# Altium integrated library SparkFun-RF.IntLib: 45 symbols
Pins are listed as number, name and electrical type; pins without a type are passive.

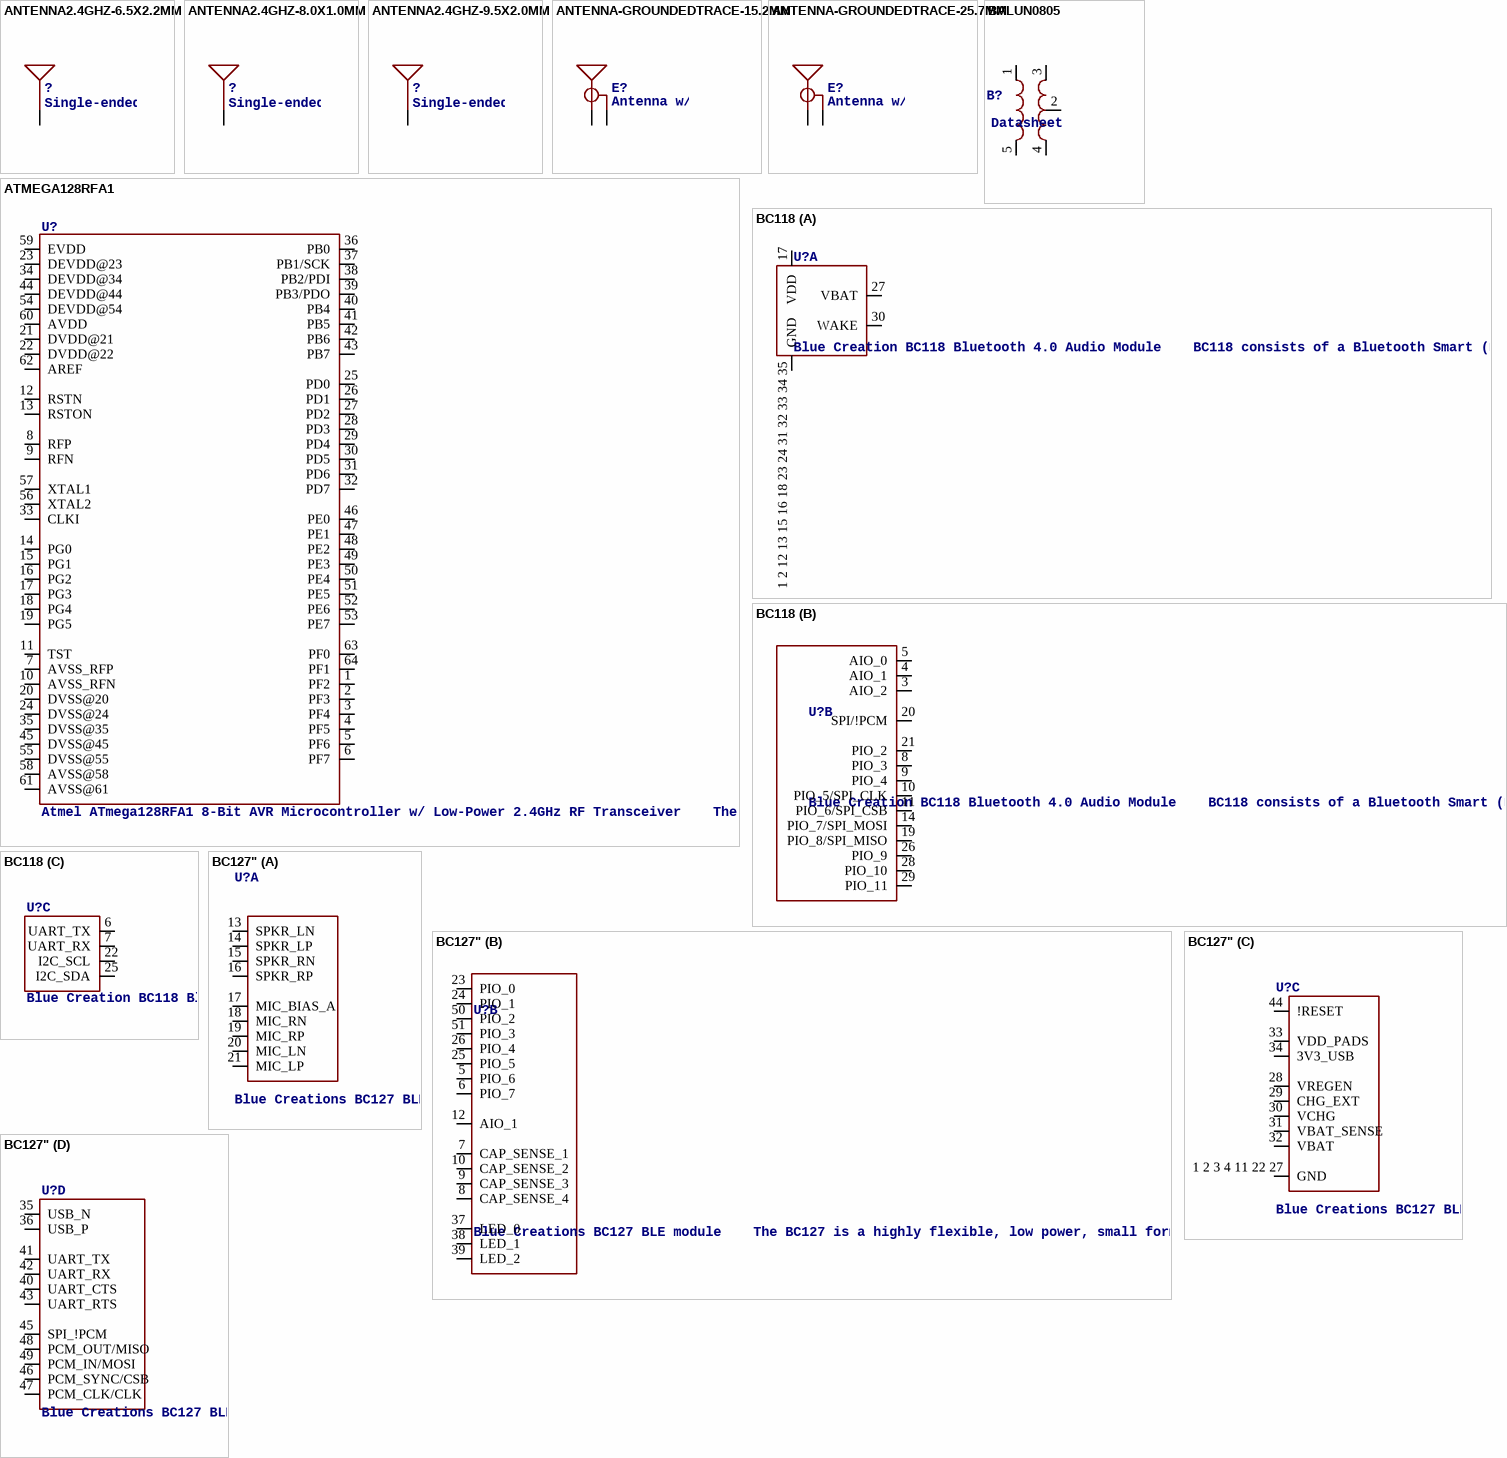
[diagram p0: symbols ANTENNA2.4GHZ-6.5X2.2MM to BC127"]

## ANTENNA2.4GHZ-6.5X2.2MM
designator ?, comment Single-ended Antennae    2.4GHz and antennae with just one terminal. These are all chip antennae.   2.4GHz (WiFi/BT/ZigBee) Antennae ANT-2.4GHZ-6.5X2.2MM - 6.5 x 2.2 mm chip antenna. (SparkFun Product)  ANT-2.4GHZ8.0X1.0MM -  8.0 x 1.0 mm chip antenna. (Datasheet)  ANT-2.4GHZ9.5X2.0MM - 9.5 x 2.0 mm chip antenna. (SparkFun Product)
PROD_ID: ANT-08187; SF_ID: WRL-00144
footprint ANT-2.4GHZ-6.5X2.2MM
pins: FEED SIGNAL

## ANTENNA2.4GHZ-8.0X1.0MM
designator ?, comment Single-ended Antennae    2.4GHz and antennae with just one terminal. These are all chip antennae.   2.4GHz (WiFi/BT/ZigBee) Antennae ANT-2.4GHZ-6.5X2.2MM - 6.5 x 2.2 mm chip antenna. (SparkFun Product)  ANT-2.4GHZ8.0X1.0MM -  8.0 x 1.0 mm chip antenna. (Datasheet)  ANT-2.4GHZ9.5X2.0MM - 9.5 x 2.0 mm chip antenna. (SparkFun Product)
PROD_ID: ANT-11807
footprint ANT-2.4GHZ-8.0X1.0MM
pins: FEED SIGNAL

## ANTENNA2.4GHZ-9.5X2.0MM
designator ?, comment Single-ended Antennae    2.4GHz and antennae with just one terminal. These are all chip antennae.   2.4GHz (WiFi/BT/ZigBee) Antennae ANT-2.4GHZ-6.5X2.2MM - 6.5 x 2.2 mm chip antenna. (SparkFun Product)  ANT-2.4GHZ8.0X1.0MM -  8.0 x 1.0 mm chip antenna. (Datasheet)  ANT-2.4GHZ9.5X2.0MM - 9.5 x 2.0 mm chip antenna. (SparkFun Product)
PROD_ID: ANT-09067; SF_ID: WRL-09025
footprint ANT-2.4GHZ-9.5X2.0MM
pins: FEED SIGNAL

## ANTENNA-GROUNDEDTRACE-15.2MM
designator E?, comment Antenna w/ Ground Connection    2.4GHz antennae with signal and ground terminals.    TRACE_ANTENNA_2.4GHZ_15.2MM - Meander Trace antenna  15.2 x 5.7mm footprint  Based on layout from TI app note AN043.      TRACE_ANTENNA_2.4GHZ_25.7MM - Inverted F trace antenna  25.7 x 7.5 mm footprint.  Based on layout from TI design note DN0007.
footprint TRACE_ANTENNA_2.4GHZ_15.2MM
pins: ANT SIGNAL, GND

## ANTENNA-GROUNDEDTRACE-25.7MM
designator E?, comment Antenna w/ Ground Connection    2.4GHz antennae with signal and ground terminals.    TRACE_ANTENNA_2.4GHZ_15.2MM - Meander Trace antenna  15.2 x 5.7mm footprint  Based on layout from TI app note AN043.      TRACE_ANTENNA_2.4GHZ_25.7MM - Inverted F trace antenna  25.7 x 7.5 mm footprint.  Based on layout from TI design note DN0007.
footprint TRACE_ANTENNA_2.4GHZ_25.7MM
pins: ANT SIGNAL, GND GND2 GND

## ATMEGA128RFA1
designator U?, comment Atmel ATmega128RFA1 8-Bit AVR Microcontroller w/ Low-Power 2.4GHz RF Transceiver    The  ATmega128RFA1  is  a  low-power  CMOS  8-bit  microcontroller  based  on  the  AVR enhanced RISC architecture combined with a high data rate transceiver for the 2.4 GHz ISM band. By   executing   powerful   instructions   in   a   single   clock   cycle,   the   device   achieves  throughputs  approaching  1  MIPS  per  MHz  allowing  the  system  designer  to  optimize power consumption versus processing speed. The  radio  transceiver  provides  high  data  rates  from  250 kb/s  up  to  2 Mb/s,  frame handling,  outstanding receiver  sensitivity  and  high transmit  output  power  enabling  a very robust wireless communication.    Datasheet   SparkFun ATmega128RFA1 Development Board
PROD_ID: IC-09639
footprint QFN-64-9X9MM
pins: 1 PF2, 2 PF3, 3 PF4, 4 PF5, 5 PF6, 6 PF7, 7 AVSS_RFP, 8 RFP, 9 RFN, 10 AVSS_RFN, 11 TST, 12 RSTN, 13 RSTON, 14 PG0, 15 PG1, 16 PG2, 17 PG3, 18 PG4, 19 PG5, 20 DVSS@20, 21 DVDD@21, 22 DVDD@22, 23 DEVDD@23, 24 DVSS@24, 25 PD0, 26 PD1, 27 PD2, 28 PD3, 29 PD4, 30 PD5, 31 PD6, 32 PD7, 33 CLKI, 34 DEVDD@34, 35 DVSS@35, 36 PB0, 37 PB1/SCK, 38 PB2/PDI, 39 PB3/PDO, 40 PB4, 41 PB5, 42 PB6, 43 PB7, 44 DEVDD@44, 45 DVSS@45, 46 PE0, 47 PE1, 48 PE2, 49 PE3, 50 PE4, 51 PE5, 52 PE6, 53 PE7, 54 DEVDD@54, 55 DVSS@55, 56 XTAL2, 57 XTAL1, 58 AVSS@58, 59 EVDD, 60 AVDD, 61 AVSS@61, 62 AREF, 63 PF0, 64 PF1

## BALUN0805
designator B?, comment Balun    Transformer to convert an unbalanced signal to a balenced one, or vice-versa.   Example Datasheet
PROD_ID: COMP-09637
footprint BALUN-0805
pins: 1 IN, 2 GND@2, 3 OUT1, 4 OUT2, 5 GND@5

## BC118
designator U?, comment Blue Creation BC118 Bluetooth 4.0 Audio Module    BC118 consists of a Bluetooth Smart (Bluetooth 4.0) radio, a microprocessor running an embedded protocol stack. The module is controlled by high level UART instructions or GPIOs. B118 supports UART and I2C Transparent mode for cable replacement, standard/custom profiles, central and peripheral modes. It can connect to any Android, iOS or Windows Mobile Smartphone that is Bluetooth smart capable. The firmware can be upgraded using an App provided by BlueCreation. BC118 can run standalone, with a host processor or controlled by an App.   Datasheet   SparkFun Products:  BLE Mate 2 (WRL-13019)
PROD_ID: WRL-12203
footprint BC118
part A pins: 1 2 12 13 15 16 18 23 24 31 32 33 34 35 GND, 17 VDD, 27 VBAT, 30 WAKE
part B pins: 3 AIO_2, 4 AIO_1, 5 AIO_0, 8 PIO_3, 9 PIO_4, 10 PIO_5/SPI_CLK, 11 PIO_6/SPI_CSB, 14 PIO_7/SPI_MOSI, 19 PIO_8/SPI_MISO, 20 SPI/!PCM, 21 PIO_2, 26 PIO_9, 28 PIO_10, 29 PIO_11
part C pins: 6 UART_TX, 7 UART_RX, 22 I2C_SCL, 25 I2C_SDA

## BC127"
designator U?, comment Blue Creations BC127 BLE module    The BC127 is a highly flexible, low power, small form factor Bluetooth Version 4.0 Certified Audio module. It comes preloaded with BlueCreation Melody software, and is ideal for developers who want to quickly and cost effectively integrate Bluetooth functionality into their products.   SparkFun Products:  Bluetooth SMD Module - BC127 (WRL-12819)  Bluetooth Audio Breakout - BC127 (WRL-11927)  Purpletooth Jamboree - BC127 Development Board (WRL-11924)
PROD_ID: IC-11659
footprint BC127
part A pins: 13 SPKR_LN, 14 SPKR_LP, 15 SPKR_RN, 16 SPKR_RP, 17 MIC_BIAS_A, 18 MIC_RN, 19 MIC_RP, 20 MIC_LN, 21 MIC_LP
part B pins: 5 PIO_6, 6 PIO_7, 7 CAP_SENSE_1, 8 CAP_SENSE_4, 9 CAP_SENSE_3, 10 CAP_SENSE_2, 12 AIO_1, 23 PIO_0, 24 PIO_1, 25 PIO_5, 26 PIO_4, 37 LED_0, 38 LED_1, 39 LED_2, 50 PIO_2, 51 PIO_3
part C pins: 1 2 3 4 11 22 27 GND, 28 VREGEN, 29 CHG_EXT, 30 VCHG, 31 VBAT_SENSE, 32 VBAT, 33 VDD_PADS, 34 3V3_USB, 44 !RESET
part D pins: 35 USB_N, 36 USB_P, 40 UART_CTS, 41 UART_TX, 42 UART_RX, 43 UART_RTS, 45 SPI_!PCM, 46 PCM_SYNC/CSB, 47 PCM_CLK/CLK, 48 PCM_OUT/MISO, 49 PCM_IN/MOSI

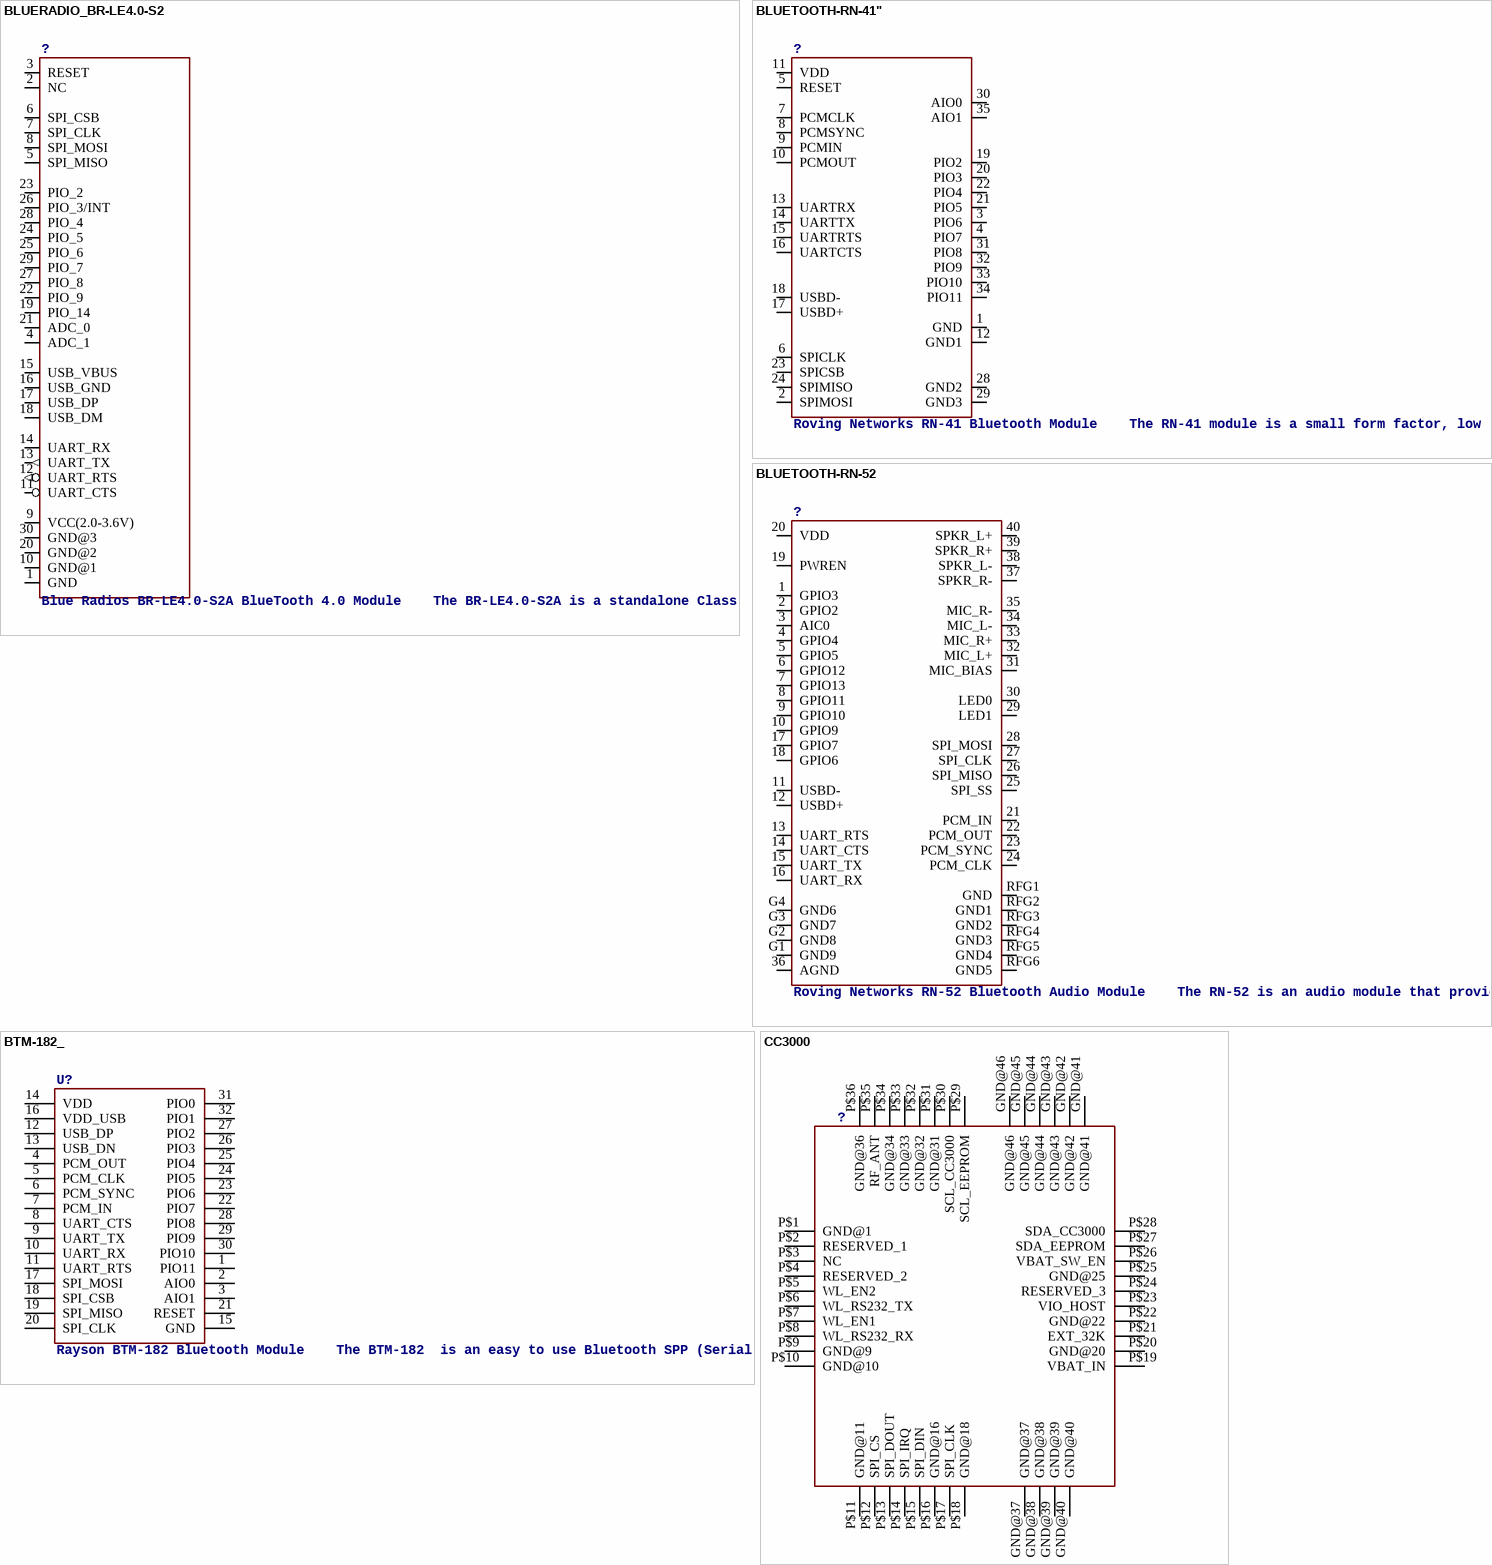
[diagram p1: symbols BLUERADIO_BR-LE4.0-S2 to CC3000]

## BLUERADIO_BR-LE4.0-S2
designator ?, comment Blue Radios BR-LE4.0-S2A BlueTooth 4.0 Module    The BR-LE4.0-S2A is a standalone Class 1 Bluetooth 4.0 module that requires no firmware or external components. Custom client applications can be written directly onto the module, which supports both analog and digital peripherals, eliminating the need for a second microprocessor. Alternately, the BR-LE4.0-S2A can be integrated into an existing design as a HCI network processor device, with a host processor running the core application and the BR-LE4.0-S2A providing Bluetooth low energy communications.   SparkFun Products:  Bluetooth 4.0 Module - BR-LE 4.0-S2A (WRL-12991)
PROD_ID: IC-11328
footprint BLUERADIO_BR-LE4.0-S2
pins: 1 GND (power), 2 NC, 3 RESET, 4 ADC_1, 5 SPI_MISO, 6 SPI_CSB, 7 SPI_CLK, 8 SPI_MOSI, 9 VCC(2.0-3.6V) (power), 10 GND@1 (power), 11 UART_CTS, 12 UART_RTS (out), 13 UART_TX (out), 14 UART_RX, 15 USB_VBUS, 16 USB_GND, 17 USB_DP, 18 USB_DM, 19 PIO_14, 20 GND@2 (power), 21 ADC_0, 22 PIO_9, 23 PIO_2, 24 PIO_5, 25 PIO_6, 26 PIO_3/INT, 27 PIO_8, 28 PIO_4, 29 PIO_7, 30 GND@3 (power)

## BLUETOOTH-RN-41"
designator ?, comment Roving Networks RN-41 Bluetooth Module    The RN-41 module is a small form factor, low power, class 1 Bluetooth radio that is ideal for designers who want to add wireless capability to their products without spending significant time and money developing Bluetooth-specific hardware and software. The RN-41 supports multiple interface protocols, is simple to design in, and is fully certified, making it a complete embedded Bluetooth solution.   SparkFun Products:  Bluetooth SMD Module - RN-41 (WRL-12575)  Bluetooth Module Breakout - Roving Networks (RN-41 v6.15) (WRL-12579)
PROD_ID: IC-11844; SF_ID: WRL-12575
footprint RN41
pins: 1 GND, 2 SPIMOSI, 3 PIO6, 4 PIO7, 5 RESET, 6 SPICLK, 7 PCMCLK, 8 PCMSYNC, 9 PCMIN, 10 PCMOUT, 11 VDD, 12 GND1, 13 UARTRX, 14 UARTTX, 15 UARTRTS, 16 UARTCTS, 17 USBD+, 18 USBD-, 19 PIO2, 20 PIO3, 21 PIO5, 22 PIO4, 23 SPICSB, 24 SPIMISO, 28 GND2, 29 GND3, 30 AIO0, 31 PIO8, 32 PIO9, 33 PIO10, 34 PIO11, 35 AIO1

## BLUETOOTH-RN-52
designator ?, comment Roving Networks RN-52 Bluetooth Audio Module    The RN-52 is an audio module that provides a highly integrated solution for delivering high quality stereo audio in a small form factor with little difficulty. This module is perfect for a project involving hands free audio for your car, remote controlling your media center, or streaming 2-channel audio.   SparkFun Products:  RN-52 - Bluetooth Audio Module (WRL-11678)  Audio Bluetooth Breakout - RN-52 (WRL-12849)
PROD_ID: IC-11569; SF_ID: WRL-11678
footprint RN-52
pins: 1 GPIO3, 2 GPIO2, 3 AIC0, 4 GPIO4, 5 GPIO5, 6 GPIO12, 7 GPIO13, 8 GPIO11, 9 GPIO10, 10 GPIO9, 11 USBD-, 12 USBD+, 13 UART_RTS, 14 UART_CTS, 15 UART_TX, 16 UART_RX, 17 GPIO7, 18 GPIO6, 19 PWREN, 20 VDD, 21 PCM_IN, 22 PCM_OUT, 23 PCM_SYNC, 24 PCM_CLK, 25 SPI_SS, 26 SPI_MISO, 27 SPI_CLK, 28 SPI_MOSI, 29 LED1, 30 LED0, 31 MIC_BIAS, 32 MIC_L+, 33 MIC_R+, 34 MIC_L-, 35 MIC_R-, 36 AGND, 37 SPKR_R-, 38 SPKR_L-, 39 SPKR_R+, 40 SPKR_L+, G1 GND9, G2 GND8, G3 GND7, G4 GND6, RFG1 GND, RFG2 GND1, RFG3 GND2, RFG4 GND3, RFG5 GND4, RFG6 GND5

## BTM-182_
designator U?, comment Rayson BTM-182 Bluetooth Module    The BTM-182  is an easy to use Bluetooth SPP (Serial Port Protocol) module, designed for transparent wireless serial connection setup. This is a fully qualified Bluetooth V2.0+EDR (Enhanced Data Rate) 3Mbps modulation with complete 2.4GHz radio transceiver. It uses CSR Bluecore 04 external single chip Bluetooth system with CMOS technology and with AFH (Adaptive Frequency Hopping).   SparkFun Products:  Bluetooth DIP Module - Rayson BTM-182 (WRL-9977)
PROD_ID: IC-09842; SF_ID: WRL-09913
footprint BTM182
pins: 1 PIO11, 2 AIO0, 3 AIO1, 4 PCM_OUT, 5 PCM_CLK, 6 PCM_SYNC, 7 PCM_IN, 8 UART_CTS, 9 UART_TX, 10 UART_RX, 11 UART_RTS, 12 USB_DP, 13 USB_DN, 14 VDD, 15 GND, 16 VDD_USB, 17 SPI_MOSI, 18 SPI_CSB, 19 SPI_MISO, 20 SPI_CLK, 21 RESET, 22 PIO7, 23 PIO6, 24 PIO5, 25 PIO4, 26 PIO3, 27 PIO2, 28 PIO8, 29 PIO9, 30 PIO10, 31 PIO0, 32 PIO1

## CC3000
designator ?, comment Texas Instruments CC3000 WiFi Module    The CC3000 from TI (Texas Instruments) is a self-contained wireless network processor that makes incorporating internet connectivity into your project simple. Instead of the more standard UART communication method, the CC3000 module utilizes an SPI interface allowing you, the user, to control the flow of data as you please.   SparkFun Products WiFi SMD Module - CC3000 (WRL-12820)  SparkFun WiFi Breakout - CC3000 (WRL-12072)  SparkFun WiFi Shield - CC3000 (WRL-12071)
PROD_ID: IC-12643; SF_ID: WRL-13444
footprint QFN-46-13.5X16.3MM
pins: GND@37, GND@38, GND@39, GND@40, GND@41, GND@42, GND@43, GND@44, GND@45, GND@46, P$1 GND@1, P$2 RESERVED_1, P$3 NC, P$4 RESERVED_2, P$5 WL_EN2, P$6 WL_RS232_TX, P$7 WL_EN1, P$8 WL_RS232_RX, P$9 GND@9, P$10 GND@10, P$11 GND@11, P$12 SPI_CS, P$13 SPI_DOUT, P$14 SPI_IRQ, P$15 SPI_DIN, P$16 GND@16, P$17 SPI_CLK, P$18 GND@18, P$19 VBAT_IN, P$20 GND@20, P$21 EXT_32K, P$22 GND@22, P$23 VIO_HOST, P$24 RESERVED_3, P$25 GND@25, P$26 VBAT_SW_EN, P$27 SDA_EEPROM, P$28 SDA_CC3000, P$29 SCL_EEPROM, P$30 SCL_CC3000, P$31 GND@31, P$32 GND@32, P$33 GND@33, P$34 GND@34, P$35 RF_ANT, P$36 GND@36

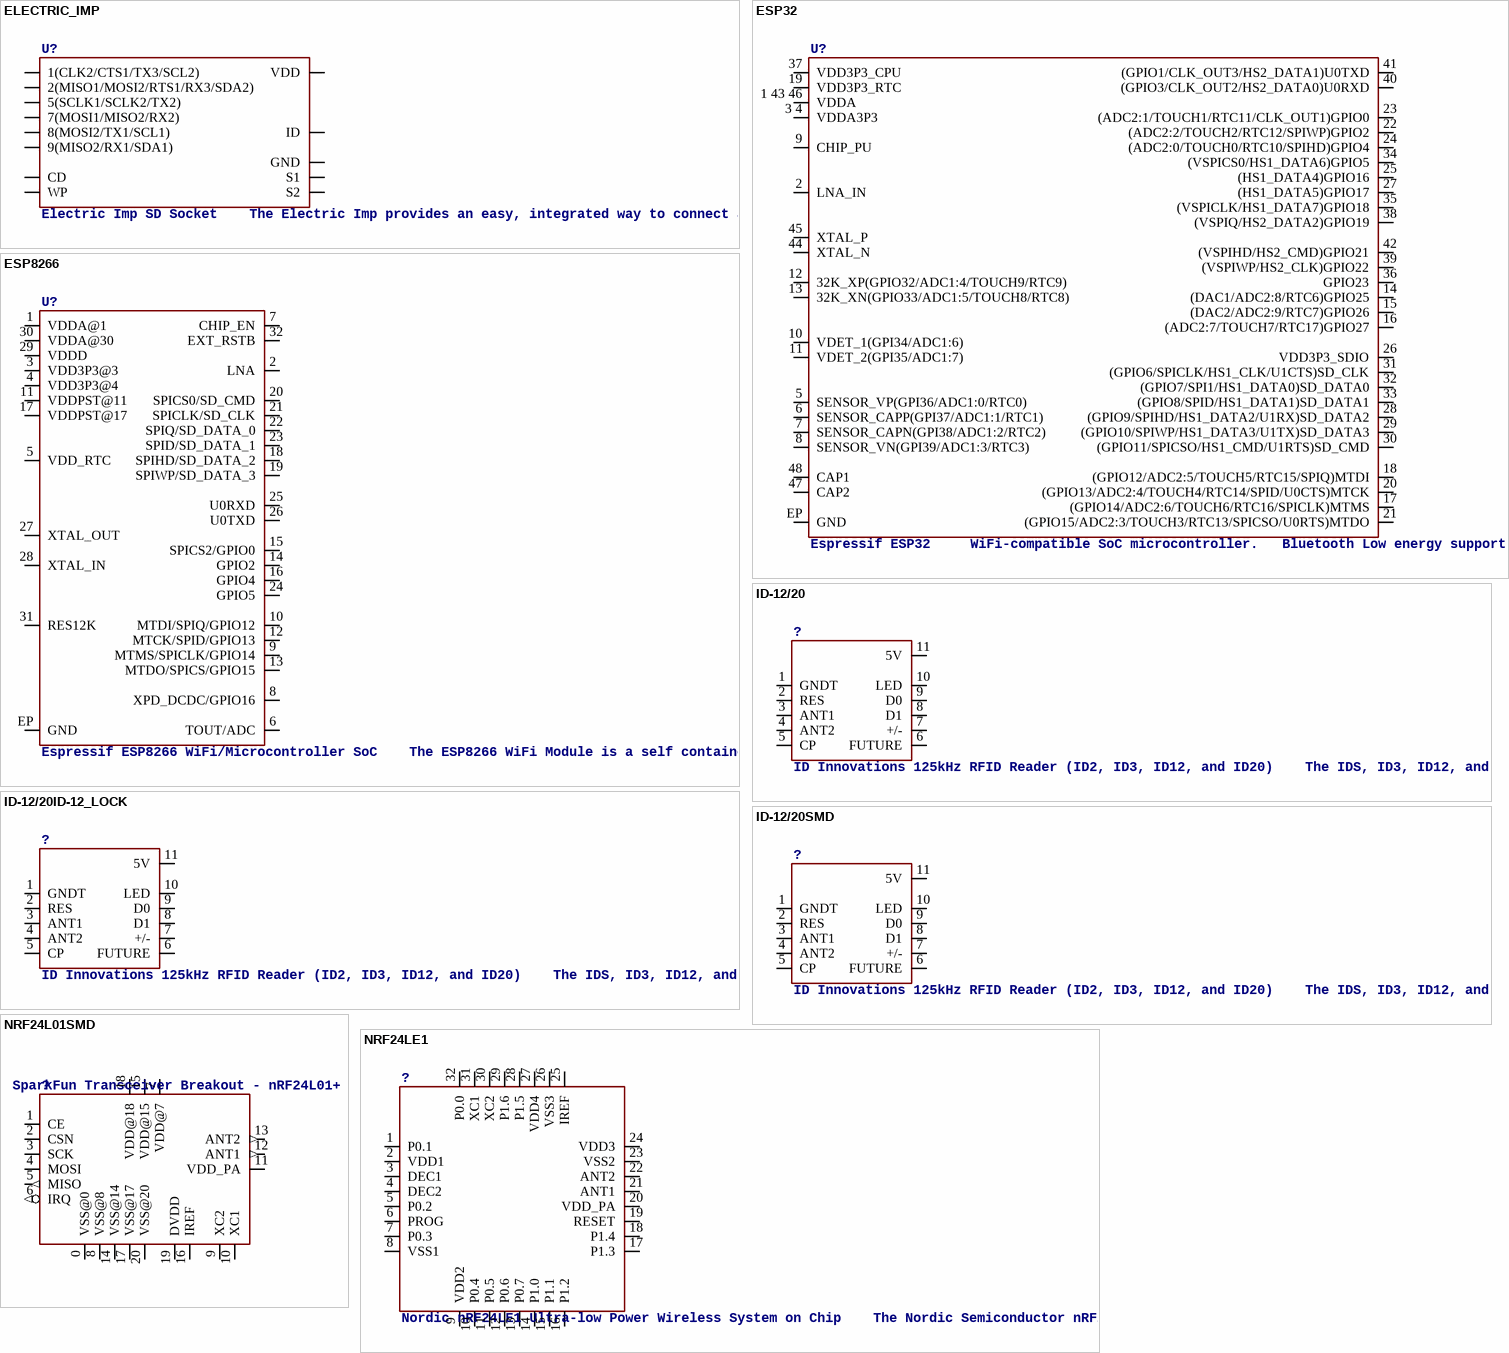
[diagram p2: symbols ELECTRIC_IMP to NRF24LE1]

## ELECTRIC_IMP
designator U?, comment Electric Imp SD Socket    The Electric Imp provides an easy, integrated way to connect almost any hardware device both to other devices and to internet services. It’s more than just a WiFi card, or even a WiFi module with processing built in - it’s an integrated platform that deals with the drudgery of connectivity, allowing you to concentrate on the application instead of the mechanics.    This device matches the Electric Imp pinout to a 4UCONN SD MMC connector. The 4UCONN part number for the connector is 19646.   SparkFun Products:  Electric Imp Breakout (WRL-12886)  SparkFun Electric Imp Shield (WRL-12887)
PROD_ID: CONN-11976
footprint SD-CARD
pins: 1 1(CLK2/CTS1/TX3/SCL2), 2 2(MISO1/MOSI2/RTS1/RX3/SDA2), 3 GND, 4 VDD, 5 5(SCLK1/SCLK2/TX2), 6 ID, 7 7(MOSI1/MISO2/RX2), 8 8(MOSI2/TX1/SCL1), 9 9(MISO2/RX1/SDA1), CD, SH@1 S1, SH@2 S2, WP

## ESP32
designator U?, comment Espressif ESP32     WiFi-compatible SoC microcontroller.   Bluetooth Low energy support (BLE, BT4.0, Bluetooth Smart)  28 GPIO pins  Dual-core Tensilica LX6 microprocessor  Hardware accelerated encryption (AES, SHA2, ECC, RSA-4096)  4MB Flash memory  520kB internal SRAM  Datasheet    SparkFun Products: SparkFun ESP32 Thing
PROD_ID: IC-13338
footprint QFN48-0.4MM
pins: 1 43 46 VDDA, 2 LNA_IN, 3 4 VDDA3P3, 5 SENSOR_VP(GPI36/ADC1:0/RTC0), 6 SENSOR_CAPP(GPI37/ADC1:1/RTC1), 7 SENSOR_CAPN(GPI38/ADC1:2/RTC2), 8 SENSOR_VN(GPI39/ADC1:3/RTC3), 9 CHIP_PU, 10 VDET_1(GPI34/ADC1:6), 11 VDET_2(GPI35/ADC1:7), 12 32K_XP(GPIO32/ADC1:4/TOUCH9/RTC9), 13 32K_XN(GPIO33/ADC1:5/TOUCH8/RTC8), 14 (DAC1/ADC2:8/RTC6)GPIO25, 15 (DAC2/ADC2:9/RTC7)GPIO26, 16 (ADC2:7/TOUCH7/RTC17)GPIO27, 17 (GPIO14/ADC2:6/TOUCH6/RTC16/SPICLK)MTMS, 18 (GPIO12/ADC2:5/TOUCH5/RTC15/SPIQ)MTDI, 19 VDD3P3_RTC, 20 (GPIO13/ADC2:4/TOUCH4/RTC14/SPID/U0CTS)MTCK, 21 (GPIO15/ADC2:3/TOUCH3/RTC13/SPICSO/U0RTS)MTDO, 22 (ADC2:2/TOUCH2/RTC12/SPIWP)GPIO2, 23 (ADC2:1/TOUCH1/RTC11/CLK_OUT1)GPIO0, 24 (ADC2:0/TOUCH0/RTC10/SPIHD)GPIO4, 25 (HS1_DATA4)GPIO16, 26 VDD3P3_SDIO, 27 (HS1_DATA5)GPIO17, 28 (GPIO9/SPIHD/HS1_DATA2/U1RX)SD_DATA2, 29 (GPIO10/SPIWP/HS1_DATA3/U1TX)SD_DATA3, 30 (GPIO11/SPICSO/HS1_CMD/U1RTS)SD_CMD, 31 (GPIO6/SPICLK/HS1_CLK/U1CTS)SD_CLK, 32 (GPIO7/SPI1/HS1_DATA0)SD_DATA0, 33 (GPIO8/SPID/HS1_DATA1)SD_DATA1, 34 (VSPICS0/HS1_DATA6)GPIO5, 35 (VSPICLK/HS1_DATA7)GPIO18, 36 GPIO23, 37 VDD3P3_CPU, 38 (VSPIQ/HS2_DATA2)GPIO19, 39 (VSPIWP/HS2_CLK)GPIO22, 40 (GPIO3/CLK_OUT2/HS2_DATA0)U0RXD, 41 (GPIO1/CLK_OUT3/HS2_DATA1)U0TXD, 42 (VSPIHD/HS2_CMD)GPIO21, 44 XTAL_N, 45 XTAL_P, 47 CAP2, 48 CAP1, EP GND

## ESP8266
designator U?, comment Espressif ESP8266 WiFi/Microcontroller SoC    The ESP8266 WiFi Module is a self contained SOC with integrated TCP/IP protocol stack that can give any microcontroller access to your WiFi network. The ESP8266 is capable of either hosting an application or offloading all Wi-Fi networking functions from another application processor.   SparkFun Products WiFi Module ESP8266 (WRL-13678)  SparkFun ESP8266 Thing (WRL-13231)  SparkFun WiFi Shield - ESP8266 (WRL-13287)  SparkFun ESP8266 Thing - Dev Board (WRL-13711)  SparkFun Blynk Board - ESP8266 (WRL-13794)
PROD_ID: IC-12452
footprint QFN32-5X5MM
pins: 1 VDDA@1, 2 LNA, 3 VDD3P3@3, 4 VDD3P3@4, 5 VDD_RTC, 6 TOUT/ADC, 7 CHIP_EN, 8 XPD_DCDC/GPIO16, 9 MTMS/SPICLK/GPIO14, 10 MTDI/SPIQ/GPIO12, 11 VDDPST@11, 12 MTCK/SPID/GPIO13, 13 MTDO/SPICS/GPIO15, 14 GPIO2, 15 SPICS2/GPIO0, 16 GPIO4, 17 VDDPST@17, 18 SPIHD/SD_DATA_2, 19 SPIWP/SD_DATA_3, 20 SPICS0/SD_CMD, 21 SPICLK/SD_CLK, 22 SPIQ/SD_DATA_0, 23 SPID/SD_DATA_1, 24 GPIO5, 25 U0RXD, 26 U0TXD, 27 XTAL_OUT, 28 XTAL_IN, 29 VDDD, 30 VDDA@30, 31 RES12K, 32 EXT_RSTB, EP GND

## ID-12/20
designator ?, comment ID Innovations 125kHz RFID Reader (ID2, ID3, ID12, and ID20)    The IDS, ID3, ID12, and ID20 are very simple to use RFID reader modules. Power the module, hold up a 125kHz card, and get a serial string output containing the unique ID of the card.   SparkFun Products RFID Reader ID-3LA (125 kHz) (SEN-11862)  RFID Reader ID-12LA (125 kHz) (SEN-11827)  RFID Reader ID-20LA (125 kHz) (SEN-11828)  SparkFun RFID USB Reader (SEN-9963)
PROD_ID: CONN-08875
footprint ID-12
pins: 1 GNDT, 2 RES, 3 ANT1, 4 ANT2, 5 CP, 6 FUTURE, 7 +/-, 8 D1, 9 D0, 10 LED, 11 5V

## ID-12/20ID-12_LOCK
designator ?, comment ID Innovations 125kHz RFID Reader (ID2, ID3, ID12, and ID20)    The IDS, ID3, ID12, and ID20 are very simple to use RFID reader modules. Power the module, hold up a 125kHz card, and get a serial string output containing the unique ID of the card.   SparkFun Products RFID Reader ID-3LA (125 kHz) (SEN-11862)  RFID Reader ID-12LA (125 kHz) (SEN-11827)  RFID Reader ID-20LA (125 kHz) (SEN-11828)  SparkFun RFID USB Reader (SEN-9963)
PROD_ID: CONN-08875
footprint ID-12_LOCK
pins: 1 GNDT, 2 RES, 3 ANT1, 4 ANT2, 5 CP, 6 FUTURE, 7 +/-, 8 D1, 9 D0, 10 LED, 11 5V

## ID-12/20SMD
designator ?, comment ID Innovations 125kHz RFID Reader (ID2, ID3, ID12, and ID20)    The IDS, ID3, ID12, and ID20 are very simple to use RFID reader modules. Power the module, hold up a 125kHz card, and get a serial string output containing the unique ID of the card.   SparkFun Products RFID Reader ID-3LA (125 kHz) (SEN-11862)  RFID Reader ID-12LA (125 kHz) (SEN-11827)  RFID Reader ID-20LA (125 kHz) (SEN-11828)  SparkFun RFID USB Reader (SEN-9963)
PROD_ID: CONN-09345, CONN-09344
footprint ID-12_SMD
pins: 1 GNDT, 2 RES, 3 ANT1, 4 ANT2, 5 CP, 6 FUTURE, 7 +/-, 8 D1, 9 D0, 10 LED, 11 5V

## NRF24L01SMD
designator ?, comment Nordic nrf24L01 2.4GHz Low-power Transceiver    This is the very popular, low cost, very low power RF transceiver from Nordic Semiconductor. Simple SPI interface.   SparkFun Products 2.4GHz Transceiver IC - nRF24L01+ (COM-00690)  SparkFun Transceiver Breakout - nRF24L01+ (RP-SMA) (WRL-00705)  SparkFun Transceiver Breakout - nRF24L01+ (COM-00691)
PROD_ID: IC-08950; SF_ID: COM-00690
footprint QFN20-4X4MM
pins: 0 VSS@0 (power), 1 CE, 2 CSN, 3 SCK, 4 MOSI, 5 MISO (out), 6 IRQ (out), 7 VDD@7 (power), 8 VSS@8 (power), 9 XC2, 10 XC1, 11 VDD_PA (power), 12 ANT1 (out), 13 ANT2 (out), 14 VSS@14 (power), 15 VDD@15 (power), 16 IREF, 17 VSS@17 (power), 18 VDD@18 (power), 19 DVDD (power), 20 VSS@20 (power)

## NRF24LE1
designator ?, comment Nordic nRF24LE1 Ultra-low Power Wireless System on Chip    The Nordic Semiconductor nRF24LE1 is a 2.4GHz ISM band radio with emhanced 8051 MCU, up to 2Mbps on air data rate, 1.9 to 3.6V supply range, 16-32-bit multiplication-division co-processor (MDU), 16 kBytes of on-chip Flash, 1 kBytes on SRAM, 1 kBytes NV data memory, 512 Bytes NV data memory (extended endurance), Interrupt controller with 18 sources and 4 priority levels, 1 Analog comparator, 10 Bit ADC, Hardware SPI slave and master, UART, three 16-bit timers/counters, AES encryption/decryption co-processor, Random number generator, 2-Wire interface, 2 Channel PWM, 7, 15, or 31 GPIO lines, On-chip hardware debug support for a JTAG debugger.
PROD_ID: IC-09044
footprint QFN-32-5X5MM
pins: 1 P0.1, 2 VDD1, 3 DEC1, 4 DEC2, 5 P0.2, 6 PROG, 7 P0.3, 8 VSS1, 9 VDD2, 10 P0.4, 11 P0.5, 12 P0.6, 13 P0.7, 14 P1.0, 15 P1.1, 16 P1.2, 17 P1.3, 18 P1.4, 19 RESET, 20 VDD_PA, 21 ANT1, 22 ANT2, 23 VSS2, 24 VDD3, 25 IREF, 26 VSS3, 27 VDD4, 28 P1.5, 29 P1.6, 30 XC2, 31 XC1, 32 P0.0

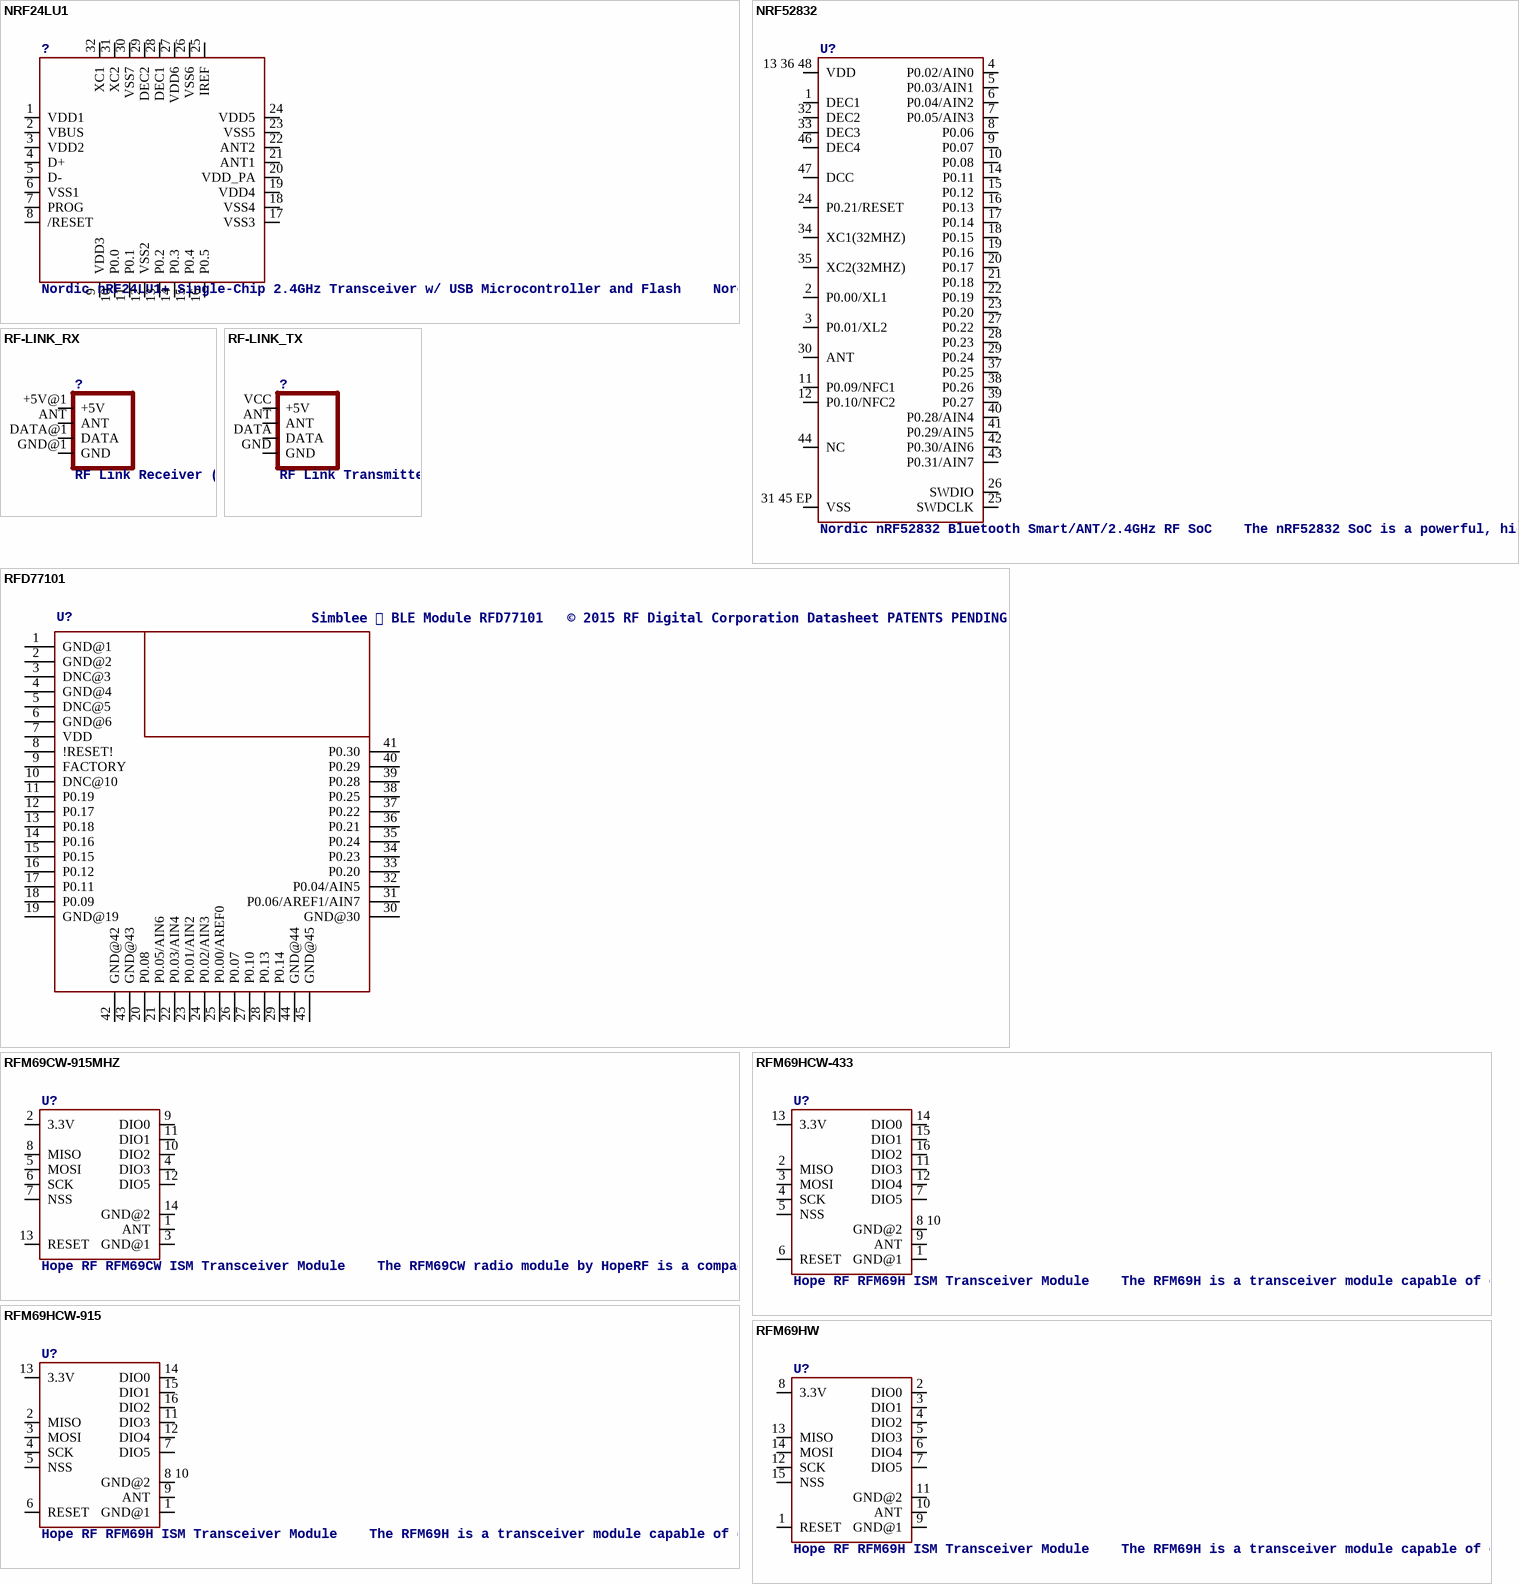
[diagram p3: symbols NRF24LU1 to RFM69HW]

## NRF24LU1
designator ?, comment Nordic nRF24LU1+ Single-Chip 2.4GHz Transceiver w/ USB Microcontroller and Flash    Nordic’s nRF24LU1+ is a complete system-on-chip wireless transceiver. The nRF24LU1+ features a fully integrated USB 2.0 compliant device controller, which makes this chip a great choice for a compact wireless USB dongle. The nRF24LU1+ is compatible with our nRF24L01+ 2.4GHz RF transceivers as well. Additional features include an 8-bit application microcontroller, 32 kB flash memory, 6 GPIO pins, SPI and UART support, and up to 2Mbps on air data rates.   SparkFun Products 2.4GHz Transceiver IC - nRF24LU1+ (COM-09525)
PROD_ID: IC-09045
footprint QFN-32-5X5MM
pins: 1 VDD1, 2 VBUS, 3 VDD2, 4 D+, 5 D-, 6 VSS1, 7 PROG, 8 /RESET, 9 VDD3, 10 P0.0, 11 P0.1, 12 VSS2, 13 P0.2, 14 P0.3, 15 P0.4, 16 P0.5, 17 VSS3, 18 VSS4, 19 VDD4, 20 VDD_PA, 21 ANT1, 22 ANT2, 23 VSS5, 24 VDD5, 25 IREF, 26 VSS6, 27 VDD6, 28 DEC1, 29 DEC2, 30 VSS7, 31 XC2, 32 XC1

## NRF52832
designator U?, comment Nordic nRF52832 Bluetooth Smart/ANT/2.4GHz RF SoC    The nRF52832 SoC is a powerful, highly flexible ultra-low power multiprotocol SoC ideally suited for Bluetooth® Smart ANT and 2.4GHz ultra low-power wireless applications.  The nRF52832 SoC is built around a 32-bit ARM® Cortex™-M4F CPU with 512kB + 64kB RAM. The embedded 2.4GHz transceiver supports Bluetooth Smart, ANT and proprietary 2.4 GHz protocol stack.  It is on air compatible with the nRF51 Series, nRF24L and nRF24AP Series products from Nordic Semiconductor.   Datasheet   SparkFun Products: SparkFun nRF52832 Breakout
PROD_ID: IC-13460
footprint QFN48-6X6MM
pins: 1 DEC1, 2 P0.00/XL1, 3 P0.01/XL2, 4 P0.02/AIN0, 5 P0.03/AIN1, 6 P0.04/AIN2, 7 P0.05/AIN3, 8 P0.06, 9 P0.07, 10 P0.08, 11 P0.09/NFC1, 12 P0.10/NFC2, 13 36 48 VDD, 14 P0.11, 15 P0.12, 16 P0.13, 17 P0.14, 18 P0.15, 19 P0.16, 20 P0.17, 21 P0.18, 22 P0.19, 23 P0.20, 24 P0.21/RESET, 25 SWDCLK, 26 SWDIO, 27 P0.22, 28 P0.23, 29 P0.24, 30 ANT, 31 45 EP VSS, 32 DEC2, 33 DEC3, 34 XC1(32MHZ), 35 XC2(32MHZ), 37 P0.25, 38 P0.26, 39 P0.27, 40 P0.28/AIN4, 41 P0.29/AIN5, 42 P0.30/AIN6, 43 P0.31/AIN7, 44 NC, 46 DEC4, 47 DCC

## RF-LINK_RX
designator ?, comment RF Link Receiver (434 MHz, 315 MHz)    These wireless receivers work with equivalent transmitters. They can easily fit into a breadboard and work well with microcontrollers to create a very simple wireless data link. Since these are only receivers, they will only work communicating data one-way, you would need two pairs (of different frequencies) to act as a transmitter/receiver pair..   SparkFun Products RF Link Receiver - 4800bps (434 MHz)(WRL-10532)
SF_ID: WRL-10533
footprint RF-LINK_RX
pins: +5V@1 +5V (power), ANT, DATA@1 DATA, GND@1 GND (power)

## RF-LINK_TX
designator ?, comment RF Link Transmitter (434 MHz, 315 MHz)    These wireless transmitters work with equivalent receivers. They can easily fit into a breadboard and work well with microcontrollers to create a very simple wireless data link. Since these are only transmitters, they will only work communicating data one-way, you would need two pairs (of different frequencies) to act as a transmitter/receiver pair.   SparkFun Products RF Link Transmitter - 434MHz (WRL-10534)
SF_ID: WRL-10534
footprint RF-LINK_TX
pins: ANT, DATA, GND (power), VCC +5V (power)

## RFD77101
designator U?, comment Simblee  BLE Module RFD77101   © 2015 RF Digital Corporation Datasheet PATENTS PENDING 04.01.2015   Bluetooth Smart radio transceiver, ARM Cortex M0 microcontroller.   128kB Flash, 24kB RAM, no EEPROM   Arduino-compatible.    SparkFun Products: Simblee BLE Module - RFD77101  SparkFun Simblee BLE Breakout - RFD77101
PROD_ID: COMP-13237; SF_ID: WRL-13808
footprint RFD77101
pins: 1 GND@1 (power), 2 GND@2 (power), 3 DNC@3, 4 GND@4 (power), 5 DNC@5, 6 GND@6 (power), 7 VDD (power), 8 !RESET!, 9 FACTORY, 10 DNC@10, 11 P0.19, 12 P0.17, 13 P0.18, 14 P0.16, 15 P0.15, 16 P0.12, 17 P0.11, 18 P0.09, 19 GND@19 (power), 20 P0.08, 21 P0.05/AIN6, 22 P0.03/AIN4, 23 P0.01/AIN2, 24 P0.02/AIN3, 25 P0.00/AREF0, 26 P0.07, 27 P0.10, 28 P0.13, 29 P0.14, 30 GND@30 (power), 31 P0.06/AREF1/AIN7, 32 P0.04/AIN5, 33 P0.20, 34 P0.23, 35 P0.24, 36 P0.21, 37 P0.22, 38 P0.25, 39 P0.28, 40 P0.29, 41 P0.30, 42 GND@42 (power), 43 GND@43 (power), 44 GND@44 (power), 45 GND@45 (power)

## RFM69CW-915MHZ
designator U?, comment Hope RF RFM69CW ISM Transceiver Module    The RFM69CW radio module by HopeRF is a compact, powerful radio transceiver module for swapping data packets in the 868 MHz ISM band, using standard and enhanced FSK modulation. The radio is great for sub-compact designs; just 4mm of mounted height from using an SMD precision crystal.   Datasheet
PROD_ID: IC-11996
footprint RFM69CW-XXXS2
pins: 1 ANT, 2 3.3V (power), 3 GND@1 (power), 4 DIO3, 5 MOSI, 6 SCK, 7 NSS, 8 MISO, 9 DIO0, 10 DIO2, 11 DIO1, 12 DIO5, 13 RESET, 14 GND@2 (power)

## RFM69HCW-433
designator U?, comment Hope RF RFM69H ISM Transceiver Module    The RFM69H is a transceiver module capable of operation over a wide frequency range, including the 315,433,868 and 915MHz license-free ISM (Industry Scientific and Medical) frequency bands. All major RF communication parameters are programmable and most of them  can  be  dynamically set.  The  RFM69H  offers  the unique advantage of programmable narrow-band and wide- band  communication modes. The RFM69H is optimized for low power consumption while offering high RF output power and channelized operation.Compliance  ETSI and FCC regulations.    Datasheet   SparkFun Products RFM69HCW Wireless Transceiver - 915MHz (COM-13909)  RFM69HCW Wireless Transceiver - 434MHz (COM-13910)  SparkFun RFM69 Breakout (915MHz) (WRL-12775)  SparkFun RFM69 Breakout (434MHz) (WRL-12823)
PROD_ID: IC-12053
footprint RFM69HCW-XXXS2
pins: 1 GND@1 (power), 2 MISO, 3 MOSI, 4 SCK, 5 NSS, 6 RESET, 7 DIO5, 8 10 GND@2 (power), 9 ANT, 11 DIO3, 12 DIO4, 13 3.3V (power), 14 DIO0, 15 DIO1, 16 DIO2

## RFM69HCW-915
designator U?, comment Hope RF RFM69H ISM Transceiver Module    The RFM69H is a transceiver module capable of operation over a wide frequency range, including the 315,433,868 and 915MHz license-free ISM (Industry Scientific and Medical) frequency bands. All major RF communication parameters are programmable and most of them  can  be  dynamically set.  The  RFM69H  offers  the unique advantage of programmable narrow-band and wide- band  communication modes. The RFM69H is optimized for low power consumption while offering high RF output power and channelized operation.Compliance  ETSI and FCC regulations.    Datasheet   SparkFun Products RFM69HCW Wireless Transceiver - 915MHz (COM-13909)  RFM69HCW Wireless Transceiver - 434MHz (COM-13910)  SparkFun RFM69 Breakout (915MHz) (WRL-12775)  SparkFun RFM69 Breakout (434MHz) (WRL-12823)
PROD_ID: IC-11997
footprint RFM69HCW-XXXS2
pins: 1 GND@1 (power), 2 MISO, 3 MOSI, 4 SCK, 5 NSS, 6 RESET, 7 DIO5, 8 10 GND@2 (power), 9 ANT, 11 DIO3, 12 DIO4, 13 3.3V (power), 14 DIO0, 15 DIO1, 16 DIO2

## RFM69HW
designator U?, comment Hope RF RFM69H ISM Transceiver Module    The RFM69H is a transceiver module capable of operation over a wide frequency range, including the 315,433,868 and 915MHz license-free ISM (Industry Scientific and Medical) frequency bands. All major RF communication parameters are programmable and most of them  can  be  dynamically set.  The  RFM69H  offers  the unique advantage of programmable narrow-band and wide- band  communication modes. The RFM69H is optimized for low power consumption while offering high RF output power and channelized operation.Compliance  ETSI and FCC regulations.    Datasheet   SparkFun Products RFM69HCW Wireless Transceiver - 915MHz (COM-13909)  RFM69HCW Wireless Transceiver - 434MHz (COM-13910)  SparkFun RFM69 Breakout (915MHz) (WRL-12775)  SparkFun RFM69 Breakout (434MHz) (WRL-12823)
footprint RFM69W-XXXS2
pins: 1 RESET, 2 DIO0, 3 DIO1, 4 DIO2, 5 DIO3, 6 DIO4, 7 DIO5, 8 3.3V (power), 9 GND@1 (power), 10 ANT, 11 GND@2 (power), 12 SCK, 13 MISO, 14 MOSI, 15 NSS

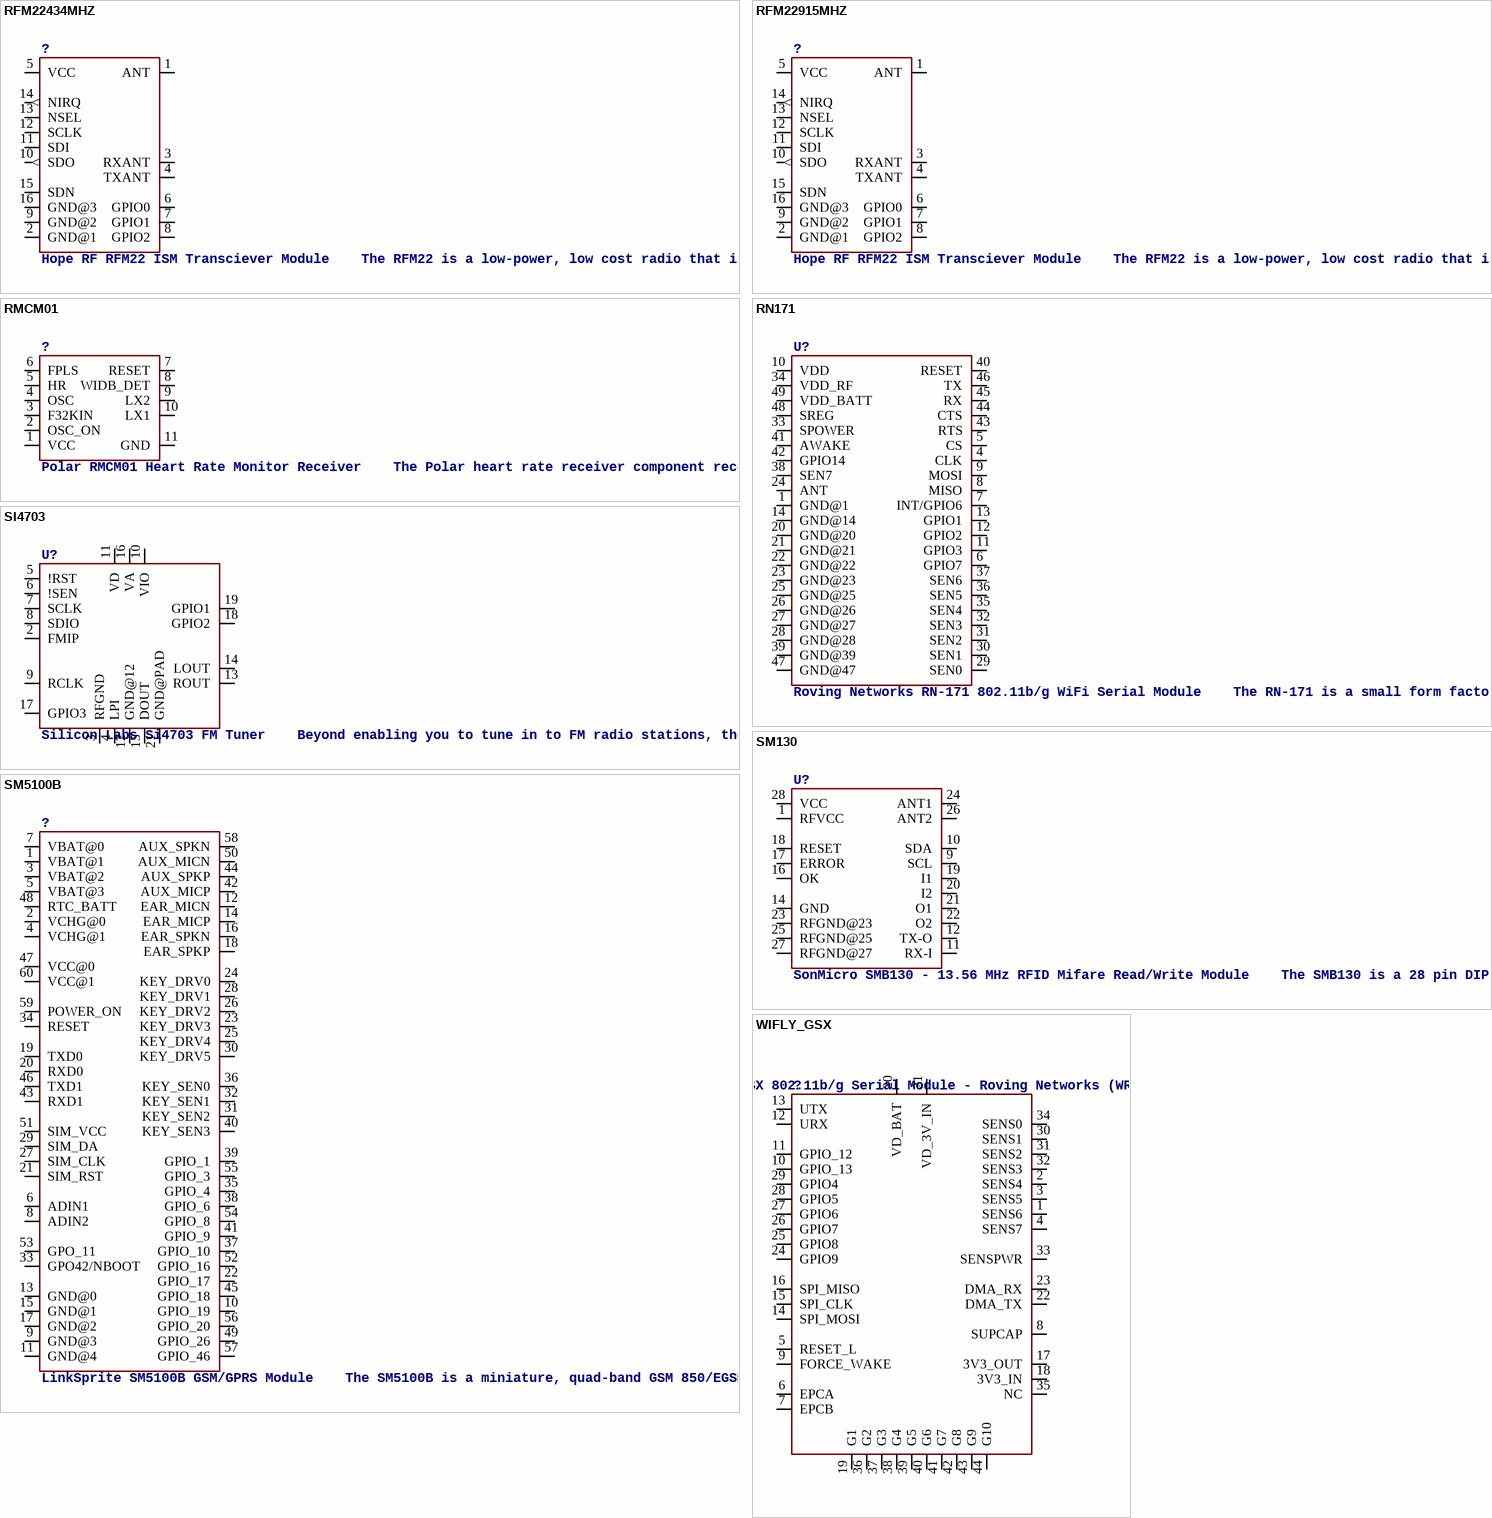
[diagram p4: symbols RFM22434MHZ to WIFLY_GSX]

## RFM22434MHZ
designator ?, comment Hope RF RFM22 ISM Transciever Module    The RFM22 is a low-power, low cost radio that is capable of operating in the 434MHz and 900MHz open bands. It's frequency is software defined and there are some very good libraries written for it.   SparkFun Products SparkFun RFM22 Shield - 434MHz (DEV-11018)
PROD_ID: IC-10007; SF_ID: WRL-10153
footprint RFM22-XXX-S2
pins: 1 ANT, 2 GND@1 (power), 3 RXANT, 4 TXANT, 5 VCC, 6 GPIO0, 7 GPIO1, 8 GPIO2, 9 GND@2 (power), 10 SDO (out), 11 SDI, 12 SCLK, 13 NSEL, 14 NIRQ (out), 15 SDN, 16 GND@3 (power)

## RFM22915MHZ
designator ?, comment Hope RF RFM22 ISM Transciever Module    The RFM22 is a low-power, low cost radio that is capable of operating in the 434MHz and 900MHz open bands. It's frequency is software defined and there are some very good libraries written for it.   SparkFun Products SparkFun RFM22 Shield - 434MHz (DEV-11018)
PROD_ID: IC-11750; SF_ID: WRL-12030
footprint RFM22-XXX-S2
pins: 1 ANT, 2 GND@1 (power), 3 RXANT, 4 TXANT, 5 VCC, 6 GPIO0, 7 GPIO1, 8 GPIO2, 9 GND@2 (power), 10 SDO (out), 11 SDI, 12 SCLK, 13 NSEL, 14 NIRQ (out), 15 SDN, 16 GND@3 (power)

## RMCM01
designator ?, comment Polar RMCM01 Heart Rate Monitor Receiver    The Polar heart rate receiver component receiver wirelessly receives the heart rate signal from Polar transmitter belt. The complete heart rate measurement system consists of three different parts; transmitter, receiver and electronics and/or display device that is outputting the heart rate value.   SparkFun Products Polar Heart Rate Monitor Interface (SEN-08661)
PROD_ID: COMP-08853
footprint RMCM01
pins: 1 VCC, 2 OSC_ON, 3 F32KIN, 4 OSC, 5 HR, 6 FPLS, 7 RESET, 8 WIDB_DET, 9 LX2, 10 LX1, 11 GND

## RN171
designator U?, comment Roving Networks RN-171 802.11b/g WiFi Serial Module    The RN-171 is a small form factor, ultra-low power embedded TCP/IP module. The RN-171 is a standalone, complete TCP/IP wireless networking module. Due to its small form factor and extremely low power consumption, it is perfect for mobile wireless applications such as asset monitoring, sensors, and portable battery operated devices.   SparkFun Products WiFly RN-171 802.11b/g Serial Module (WRL-11049)
PROD_ID: IC-11000; SF_ID: WRL-11049
footprint RN171
pins: 1 GND@1, 4 CLK, 5 CS, 6 GPIO7, 7 INT/GPIO6, 8 MISO, 9 MOSI, 10 VDD, 11 GPIO3, 12 GPIO2, 13 GPIO1, 14 GND@14, 20 GND@20, 21 GND@21, 22 GND@22, 23 GND@23, 24 ANT, 25 GND@25, 26 GND@26, 27 GND@27, 28 GND@28, 29 SEN0, 30 SEN1, 31 SEN2, 32 SEN3, 33 SPOWER, 34 VDD_RF, 35 SEN4, 36 SEN5, 37 SEN6, 38 SEN7, 39 GND@39, 40 RESET, 41 AWAKE, 42 GPIO14, 43 RTS, 44 CTS, 45 RX, 46 TX, 47 GND@47, 48 SREG, 49 VDD_BATT

## SI4703
designator U?, comment Silicon Labs Si4703 FM Tuner    Beyond enabling you to tune in to FM radio stations, the Si4703 is also capable of detecting and processing both Radio Data Service (RDS) and Radio Broadcast Data Service (RBDS) information. The Si4703 even does a very good job of filtering and carrier detection. It also enables data such as the station ID and song name to be displayed to the user.   SparkFun Products SparkFun FM Tuner Evaluation Board - Si4703 (WRL-12938)  SparkFun FM Tuner Basic Breakout - Si4703 (WRL-11083)  FabFM Radio Kit  (KIT-11043)
PROD_ID: IC-10150
footprint QFN-20-3X3MM
pins: 2 FMIP, 3 RFGND, 4 LPI, 5 !RST, 6 !SEN, 7 SCLK, 8 SDIO, 9 RCLK, 10 VIO, 11 VD, 12 GND@12, 13 ROUT, 14 LOUT, 15 DOUT, 16 VA, 17 GPIO3, 18 GPIO2, 19 GPIO1, 21 GND@PAD

## SM130
designator U?, comment SonMicro SMB130 - 13.56 MHz RFID Mifare Read/Write Module    The SMB130 is a 28 pin DIP module that includes all necessary components for a 13.56 MHz RFID MIFARE®, aside from a PCB antenna. SparkFun Products  RFID Module - SM130 MIFARE® (13.56 MHz)  (SEN-10126)
PROD_ID: LPA-12905
footprint SM130
pins: 1 RFVCC, 9 SCL, 10 SDA, 11 RX-I, 12 TX-O, 14 GND, 16 OK, 17 ERROR, 18 RESET, 19 I1, 20 I2, 21 O1, 22 O2, 23 RFGND@23, 24 ANT1, 25 RFGND@25, 26 ANT2, 27 RFGND@27, 28 VCC

## SM5100B
designator ?, comment LinkSprite SM5100B GSM/GPRS Module    The SM5100B is a miniature, quad-band GSM 850/EGSM 900/DCS 1800/PCS 1900 module, which can be integrated into a great number of wireless projects. You can use this module to accomplish almost anything a normal cell phone can - SMS text messages, GSM/GPRS, TCP/IP, and more! SparkFun Products  GSM/GPRS Module - SM5100B (CEL-09533)
PROD_ID: CONN-09315
footprint SM5100B
pins: 1 VBAT@1, 2 VCHG@0, 3 VBAT@2, 4 VCHG@1, 5 VBAT@3, 6 ADIN1, 7 VBAT@0, 8 ADIN2, 9 GND@3, 10 GPIO_19, 11 GND@4, 12 EAR_MICN, 13 GND@0, 14 EAR_MICP, 15 GND@1, 16 EAR_SPKN, 17 GND@2, 18 EAR_SPKP, 19 TXD0, 20 RXD0, 21 SIM_RST, 22 GPIO_17, 23 KEY_DRV3, 24 KEY_DRV0, 25 KEY_DRV4, 26 KEY_DRV2, 27 SIM_CLK, 28 KEY_DRV1, 29 SIM_DA, 30 KEY_DRV5, 31 KEY_SEN2, 32 KEY_SEN1, 33 GPO42/NBOOT, 34 RESET, 35 GPIO_4, 36 KEY_SEN0, 37 GPIO_10, 38 GPIO_6, 39 GPIO_1, 40 KEY_SEN3, 41 GPIO_9, 42 AUX_MICP, 43 RXD1, 44 AUX_SPKP, 45 GPIO_18, 46 TXD1, 47 VCC@0, 48 RTC_BATT, 49 GPIO_26, 50 AUX_MICN, 51 SIM_VCC, 52 GPIO_16, 53 GPO_11, 54 GPIO_8, 55 GPIO_3, 56 GPIO_20, 57 GPIO_46, 58 AUX_SPKN, 59 POWER_ON, 60 VCC@1

## WIFLY_GSX
designator ?, comment Roving Networks WiFly GSX (RN-131C) Wi-Fi Module    The WiFly GSX (RN-131C) module is a complete ultra low power embedded TCP/IP solution. The WiFly GSX module is a stand alone, embedded wireless 802.11b/g networking module. SparkFun Products  WiFly GSX 802.11b/g Serial Module - Roving Networks (WRL-10004)
PROD_ID: IC-12671; SF_ID: WRL-13525
footprint WIFLY_GSX
pins: 1 SENS6, 2 SENS4, 3 SENS5, 4 SENS7, 5 RESET_L, 6 EPCA, 7 EPCB, 8 SUPCAP, 9 FORCE_WAKE, 10 GPIO_13, 11 GPIO_12, 12 URX, 13 UTX, 14 SPI_MOSI, 15 SPI_CLK, 16 SPI_MISO, 17 3V3_OUT, 18 3V3_IN, 19 G1, 20 VD_BAT, 21 VD_3V_IN, 22 DMA_TX, 23 DMA_RX, 24 GPIO9, 25 GPIO8, 26 GPIO7, 27 GPIO6, 28 GPIO5, 29 GPIO4, 30 SENS1, 31 SENS2, 32 SENS3, 33 SENSPWR, 34 SENS0, 35 NC, 36 G2, 37 G3, 38 G4, 39 G5, 40 G6, 41 G7, 42 G8, 43 G9, 44 G10

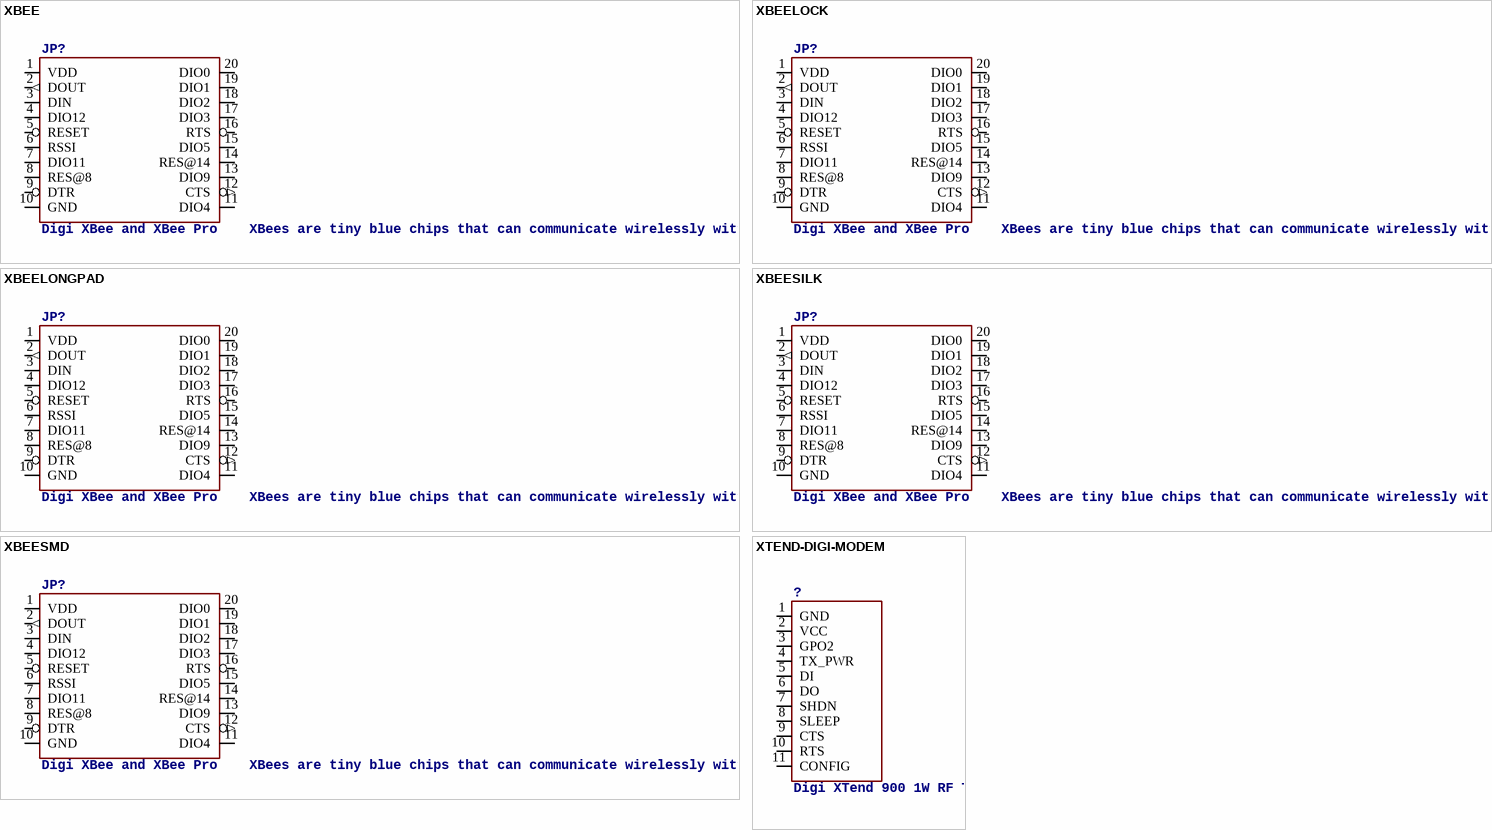
[diagram p5: symbols XBEE to XTEND-DIGI-MODEM]

## XBEE
designator JP?, comment Digi XBee and XBee Pro    XBees are tiny blue chips that can communicate wirelessly with each other. They can do simple things, like replacing a couple of wires in serial communication, which is nice when you want to make a remote for your paintball vehicle. SparkFun Products  SparkFun XBee Buying Guide  SparkFun XBee Explorer USB (WRL-11812)  Breakout Board for XBee Module (WRL-8276)  SparkFun XBee Explorer Regulated (WRL-11373)  SparkFun XBee Explorer Dongle (WRL-11697)  SparkFun XBee Shield (WRL-12847)  SparkFun XBee Explorer Serial (WRL-13225)
footprint XBEE
pins: 1 VDD (power), 2 DOUT (out), 3 DIN, 4 DIO12, 5 RESET, 6 RSSI, 7 DIO11, 8 RES@8, 9 DTR, 10 GND (power), 11 DIO4, 12 CTS (out), 13 DIO9, 14 RES@14, 15 DIO5, 16 RTS, 17 DIO3, 18 DIO2, 19 DIO1, 20 DIO0

## XBEELOCK
designator JP?, comment Digi XBee and XBee Pro    XBees are tiny blue chips that can communicate wirelessly with each other. They can do simple things, like replacing a couple of wires in serial communication, which is nice when you want to make a remote for your paintball vehicle. SparkFun Products  SparkFun XBee Buying Guide  SparkFun XBee Explorer USB (WRL-11812)  Breakout Board for XBee Module (WRL-8276)  SparkFun XBee Explorer Regulated (WRL-11373)  SparkFun XBee Explorer Dongle (WRL-11697)  SparkFun XBee Shield (WRL-12847)  SparkFun XBee Explorer Serial (WRL-13225)
footprint XBEE-LOCK
pins: 1 VDD (power), 2 DOUT (out), 3 DIN, 4 DIO12, 5 RESET, 6 RSSI, 7 DIO11, 8 RES@8, 9 DTR, 10 GND (power), 11 DIO4, 12 CTS (out), 13 DIO9, 14 RES@14, 15 DIO5, 16 RTS, 17 DIO3, 18 DIO2, 19 DIO1, 20 DIO0

## XBEELONGPAD
designator JP?, comment Digi XBee and XBee Pro    XBees are tiny blue chips that can communicate wirelessly with each other. They can do simple things, like replacing a couple of wires in serial communication, which is nice when you want to make a remote for your paintball vehicle. SparkFun Products  SparkFun XBee Buying Guide  SparkFun XBee Explorer USB (WRL-11812)  Breakout Board for XBee Module (WRL-8276)  SparkFun XBee Explorer Regulated (WRL-11373)  SparkFun XBee Explorer Dongle (WRL-11697)  SparkFun XBee Shield (WRL-12847)  SparkFun XBee Explorer Serial (WRL-13225)
footprint XBEE-LONGPAD
pins: 1 VDD (power), 2 DOUT (out), 3 DIN, 4 DIO12, 5 RESET, 6 RSSI, 7 DIO11, 8 RES@8, 9 DTR, 10 GND (power), 11 DIO4, 12 CTS (out), 13 DIO9, 14 RES@14, 15 DIO5, 16 RTS, 17 DIO3, 18 DIO2, 19 DIO1, 20 DIO0

## XBEESILK
designator JP?, comment Digi XBee and XBee Pro    XBees are tiny blue chips that can communicate wirelessly with each other. They can do simple things, like replacing a couple of wires in serial communication, which is nice when you want to make a remote for your paintball vehicle. SparkFun Products  SparkFun XBee Buying Guide  SparkFun XBee Explorer USB (WRL-11812)  Breakout Board for XBee Module (WRL-8276)  SparkFun XBee Explorer Regulated (WRL-11373)  SparkFun XBee Explorer Dongle (WRL-11697)  SparkFun XBee Shield (WRL-12847)  SparkFun XBee Explorer Serial (WRL-13225)
footprint XBEE-SILK
pins: 1 VDD (power), 2 DOUT (out), 3 DIN, 4 DIO12, 5 RESET, 6 RSSI, 7 DIO11, 8 RES@8, 9 DTR, 10 GND (power), 11 DIO4, 12 CTS (out), 13 DIO9, 14 RES@14, 15 DIO5, 16 RTS, 17 DIO3, 18 DIO2, 19 DIO1, 20 DIO0

## XBEESMD
designator JP?, comment Digi XBee and XBee Pro    XBees are tiny blue chips that can communicate wirelessly with each other. They can do simple things, like replacing a couple of wires in serial communication, which is nice when you want to make a remote for your paintball vehicle. SparkFun Products  SparkFun XBee Buying Guide  SparkFun XBee Explorer USB (WRL-11812)  Breakout Board for XBee Module (WRL-8276)  SparkFun XBee Explorer Regulated (WRL-11373)  SparkFun XBee Explorer Dongle (WRL-11697)  SparkFun XBee Shield (WRL-12847)  SparkFun XBee Explorer Serial (WRL-13225)
PROD_ID: CONN-09042
footprint XBEE-SMD
pins: 1 VDD (power), 2 DOUT (out), 3 DIN, 4 DIO12, 5 RESET, 6 RSSI, 7 DIO11, 8 RES@8, 9 DTR, 10 GND (power), 11 DIO4, 12 CTS (out), 13 DIO9, 14 RES@14, 15 DIO5, 16 RTS, 17 DIO3, 18 DIO2, 19 DIO1, 20 DIO0

## XTEND-DIGI-MODEM
designator ?, comment Digi XTend 900 1W RF Transceiver    The XTend Modem packs a ton of RF punch into a small, low-power, easy-to-use, and reliable module. Outdoors, with line-of-sight, this module can communicate at up to 40 miles; indoors it can still do up to 3000ft. The module transfers a standard asynchronous serial data stream, operates within the ISM 900MHz frequency band and sustains up to 115.2kbps data throughput. The module comes with an attached RPSMA antenna connector. SparkFun Products  XTend 900 1W RPSMA - 40 Mile Range (WRL-09411)
SF_ID: WRL-09411
footprint XTEND-DIGI-MODEM
pins: 1 GND, 2 VCC, 3 GPO2, 4 TX_PWR, 5 DI, 6 DO, 7 SHDN, 8 SLEEP, 9 CTS, 10 RTS, 11 CONFIG